# Altium schematic symbol library 2N7002K-T1-E3.SchLib: 1 symbol
Pins are listed as number, name and electrical type; pins without a type are passive.

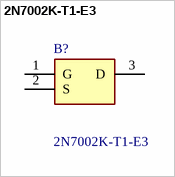
[diagram p0: symbol 2N7002K-T1-E3]

## 2N7002K-T1-E3
designator B?
2N7002K-T1-E3, N-channel MOSFET Transistor 0.3 A 60 V, 3-Pin SOT-23, TO-236; Manufacturer_Name: Vishay; Geometry.Height: 1.12mm; Mouser Part Number: 781-2N7002K-E3; Mouser Price/Stock: https://www.mouser.co.uk/ProductDetail/Vishay-Siliconix/2N7002K-T1-E3?qs=jcx%252B0HVgj2auuEZ99jRcGQ%3D%3D; Manufacturer_Part_Number: 2N7002K-T1-E3; Datasheet Link: https://datasheet.datasheetarchive.com/originals/distributors/Datasheets-DGA23/1579398.pdf
footprint SOT95P237X112-3N
pins: 1 G, 2 S, 3 D